# EAGLE library part P8X32A (library crasbe)
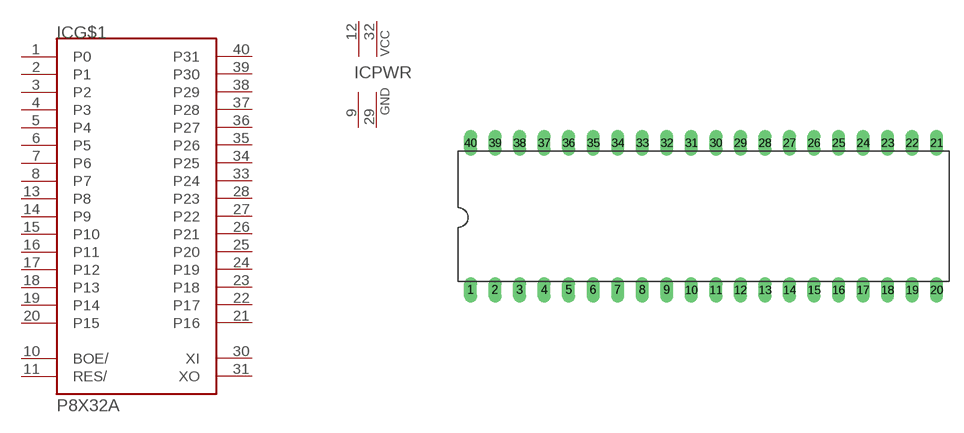
[diagram p58: symbol with the pads of DIL40; footprint DIL40]

Designator prefix IC; gates G$1=P8X32A PWR=VCC2GND2

## P8X32A-D40  [DIL40]
1  G$1:P0
2  G$1:P1
3  G$1:P2
4  G$1:P3
5  G$1:P4
6  G$1:P5
7  G$1:P6
8  G$1:P7
9  PWR:GND  pwr
10  G$1:BOE/  in
11  G$1:RES/
12  PWR:VCC  pwr
13  G$1:P8
14  G$1:P9
15  G$1:P10
16  G$1:P11
17  G$1:P12
18  G$1:P13
19  G$1:P14
20  G$1:P15
21  G$1:P16
22  G$1:P17
23  G$1:P18
24  G$1:P19
25  G$1:P20
26  G$1:P21
27  G$1:P22
28  G$1:P23
29  PWR:GND  pwr
30  G$1:XI  in
31  G$1:XO  out
32  PWR:VCC  pwr
33  G$1:P24
34  G$1:P25
35  G$1:P26
36  G$1:P27
37  G$1:P28
38  G$1:P29
39  G$1:P30
40  G$1:P31

## Footprint DIL40 (pad centres in mm)
drill 0.813 long: 1 -24.13,-7.62; 2 -21.59,-7.62; 3 -19.05,-7.62; 4 -16.51,-7.62; 5 -13.97,-7.62; 6 -11.43,-7.62; 7 -8.89,-7.62; 8 -6.35,-7.62; 9 -3.81,-7.62; 10 -1.27,-7.62; 11 1.27,-7.62; 12 3.81,-7.62; 13 6.35,-7.62; 14 8.89,-7.62; 15 11.43,-7.62; 16 13.97,-7.62; 17 16.51,-7.62; 18 19.05,-7.62; 19 21.59,-7.62; 20 24.13,-7.62; 21 24.13,7.62; 22 21.59,7.62; 23 19.05,7.62; 24 16.51,7.62; 25 13.97,7.62; 26 11.43,7.62; 27 8.89,7.62; 28 6.35,7.62; 29 3.81,7.62; 30 1.27,7.62; 31 -1.27,7.62; 32 -3.81,7.62; 33 -6.35,7.62; 34 -8.89,7.62; 35 -11.43,7.62; 36 -13.97,7.62; 37 -16.51,7.62; 38 -19.05,7.62; 39 -21.59,7.62; 40 -24.13,7.62